# EAGLE library part PCIE-M.2-KEY-A+E-* (library PCI Express)
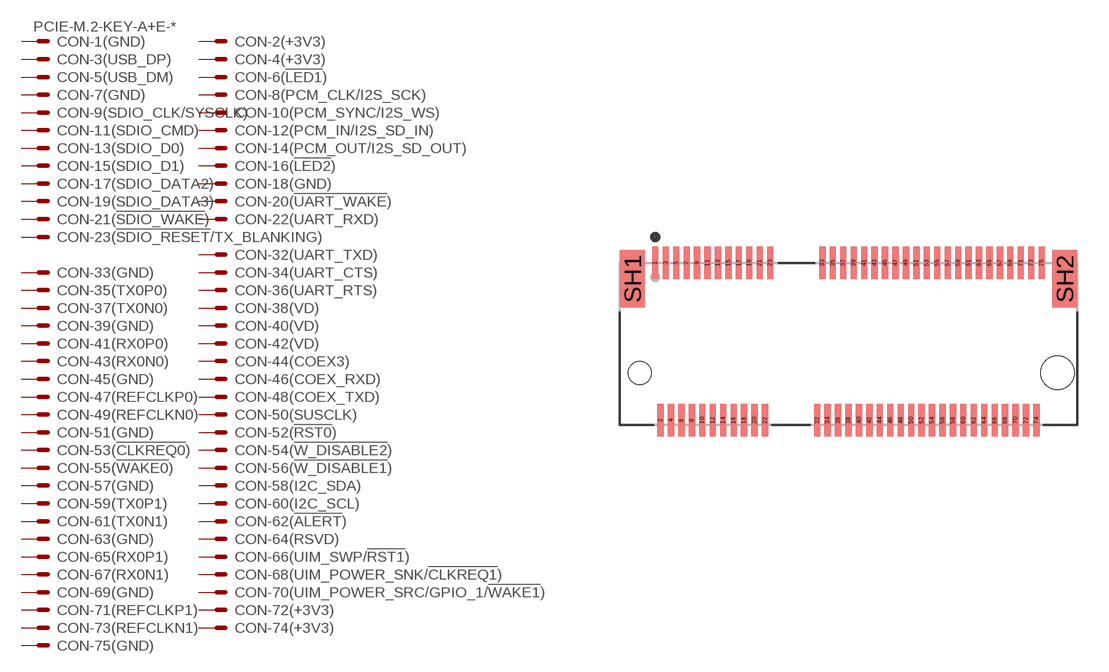
[diagram p3: symbol with the pads of PCIE-M.2-KEY-E+A-SKT; footprint PCIE-M.2-KEY-E+A-SKT]

Designator prefix CON; gates -1(GND)=KV -2(+3V3)=K -3(USB_DP)=K -5(USB_DM)=K -7(GND)=K -9(SDIO_CLK/SYSCLK)=K -11(SDIO_CMD)=K -13(SDIO_D0)=K -15(SDIO_D1)=K -4(+3V3)=K -6(!LED1!)=K -8(PCM_CLK/I2S_SCK)=K -10(PCM_SYNC/I2S_WS)=K -12(PCM_IN/I2S_SD_IN)=K -14(PCM_OUT/I2S_SD_OUT)=K -16(!LED2!)=K -18(GND)=K -20(!UART_WAKE!)=K -22(UART_RXD)=K -17(SDIO_DATA2)=K -19(SDIO_DATA3)=K -21(!SDIO_WAKE!)=K -23(!SDIO_RESET!/TX_BLANKING)=K -33(GND)=K -35(TX0P0)=K -32(UART_TXD)=K -34(UART_CTS)=K -36(UART_RTS)=K -37(TX0N0)=K -39(GND)=K -38(VD)=K -40(VD)=K -42(VD)=K -44(COEX3)=K -46(COEX_RXD)=K -50(SUSCLK)=K -48(COEX_TXD)=K -52(!RST0!)=K -54(!W_DISABLE2!)=K -56(!W_DISABLE1!)=K -58(I2C_SDA)=K -68(UIM_POWER_SNK/!CLKREQ1!)=K -70(UIM_POWER_SRC/GPIO_1/!WAKE1!)=K -72(+3V3)=K -74(+3V3)=K -57(GND)=K -67(RX0N1)=K -69(GND)=K -71(REFCLKP1)=K -73(REFCLKN1)=K -75(GND)=K -41(RX0P0)=K -43(RX0N0)=K -45(GND)=K -47(REFCLKP0)=K -49(REFCLKN0)=K -51(GND)=K -53(!CLKREQ0!)=K -55(!WAKE0!)=K -59(TX0P1)=K -61(TX0N1)=K -63(GND)=K -65(RX0P1)=K -60(I2C_SCL)=K -62(!ALERT!)=K -64(RSVD)=K -66(UIM_SWP/!RST1!)=K

## PCIE-M.2-KEY-A+E-  [PCIE-M.2-KEY-E+A-SKT]
1  -1(GND):S  pas
2  -2(+3V3):S  pas
3  -3(USB_DP):S  pas
4  -4(+3V3):S  pas
5  -5(USB_DM):S  pas
6  -6(!LED1!):S  pas
7  -7(GND):S  pas
8  -8(PCM_CLK/I2S_SCK):S  pas
9  -9(SDIO_CLK/SYSCLK):S  pas
10  -10(PCM_SYNC/I2S_WS):S  pas
11  -11(SDIO_CMD):S  pas
12  -12(PCM_IN/I2S_SD_IN):S  pas
13  -13(SDIO_D0):S  pas
14  -14(PCM_OUT/I2S_SD_OUT):S  pas
15  -15(SDIO_D1):S  pas
16  -16(!LED2!):S  pas
17  -17(SDIO_DATA2):S  pas
18  -18(GND):S  pas
19  -19(SDIO_DATA3):S  pas
20  -20(!UART_WAKE!):S  pas
21  -21(!SDIO_WAKE!):S  pas
22  -22(UART_RXD):S  pas
23  -23(!SDIO_RESET!/TX_BLANKING):S  pas
32  -32(UART_TXD):S  pas
33  -33(GND):S  pas
34  -34(UART_CTS):S  pas
35  -35(TX0P0):S  pas
36  -36(UART_RTS):S  pas
37  -37(TX0N0):S  pas
38  -38(VD):S  pas
39  -39(GND):S  pas
40  -40(VD):S  pas
41  -41(RX0P0):S  pas
42  -42(VD):S  pas
43  -43(RX0N0):S  pas
44  -44(COEX3):S  pas
45  -45(GND):S  pas
46  -46(COEX_RXD):S  pas
47  -47(REFCLKP0):S  pas
48  -48(COEX_TXD):S  pas
49  -49(REFCLKN0):S  pas
50  -50(SUSCLK):S  pas
51  -51(GND):S  pas
52  -52(!RST0!):S  pas
53  -53(!CLKREQ0!):S  pas
54  -54(!W_DISABLE2!):S  pas
55  -55(!WAKE0!):S  pas
56  -56(!W_DISABLE1!):S  pas
57  -57(GND):S  pas
58  -58(I2C_SDA):S  pas
59  -59(TX0P1):S  pas
60  -60(I2C_SCL):S  pas
61  -61(TX0N1):S  pas
62  -62(!ALERT!):S  pas
63  -63(GND):S  pas
64  -64(RSVD):S  pas
65  -65(RX0P1):S  pas
66  -66(UIM_SWP/!RST1!):S  pas
67  -67(RX0N1):S  pas
68  -68(UIM_POWER_SNK/!CLKREQ1!):S  pas
69  -69(GND):S  pas
70  -70(UIM_POWER_SRC/GPIO_1/!WAKE1!):S  pas
71  -71(REFCLKP1):S  pas
72  -72(+3V3):S  pas
73  -73(REFCLKN1):S  pas
74  -74(+3V3):S  pas
75  -75(GND):S  pas
SH1  -1(GND):S  pas
SH2  -1(GND):S  pas

## Footprint PCIE-M.2-KEY-E+A-SKT (pad centres in mm)
smd 0.3 x 1.55: 1 -9.25,5.275; 2 -9,-2.275; 3 -8.75,5.275; 4 -8.5,-2.275; 5 -8.25,5.275; 6 -8,-2.275; 7 -7.75,5.275; 8 -7.5,-2.275; 9 -7.25,5.275; 10 -7,-2.275; 11 -6.75,5.275; 12 -6.5,-2.275; 13 -6.25,5.275; 14 -6,-2.275; 15 -5.75,5.275; 16 -5.5,-2.275; 17 -5.25,5.275; 18 -5,-2.275; 19 -4.75,5.275; 20 -4.5,-2.275; 21 -4.25,5.275; 22 -4,-2.275; 23 -3.75,5.275; 32 -1.5,-2.275; 33 -1.25,5.275; 34 -1,-2.275; 35 -0.75,5.275; 36 -0.5,-2.275; 37 -0.25,5.275; 38 0,-2.275; 39 0.25,5.275; 40 0.5,-2.275; 41 0.75,5.275; 42 1,-2.275; 43 1.25,5.275; 44 1.5,-2.275; 45 1.75,5.275; 46 2,-2.275; 47 2.25,5.275; 48 2.5,-2.275; 49 2.75,5.275; 50 3,-2.275; 51 3.25,5.275; 52 3.5,-2.275; 53 3.75,5.275; 54 4,-2.275; 55 4.25,5.275; 56 4.5,-2.275; 57 4.75,5.275; 58 5,-2.275; 59 5.25,5.275; 60 5.5,-2.275; 61 5.75,5.275; 62 6,-2.275; 63 6.25,5.275; 64 6.5,-2.275; 65 6.75,5.275; 66 7,-2.275; 67 7.25,5.275; 68 7.5,-2.275; 69 7.75,5.275; 70 8,-2.275; 71 8.25,5.275; 72 8.5,-2.275; 73 8.75,5.275; 74 9,-2.275; 75 9.25,5.275
smd 1.2 x 2.75: SH1 -10.35,4.5; SH2 10.35,4.5
hole 1.1 at -10,0
hole 1.6 at 10,0